# EAGLE library part TXB0104 (library U-Translator)
TXB0104x [TI,TXB0104DRG4] TRANSLATOR VOLT-LVL AUTO-DIR 14SOIC Do not blindly use this part, make sure you read the data sheet. For examle it must have fairly high Z, 50k Ohm or more on logic line
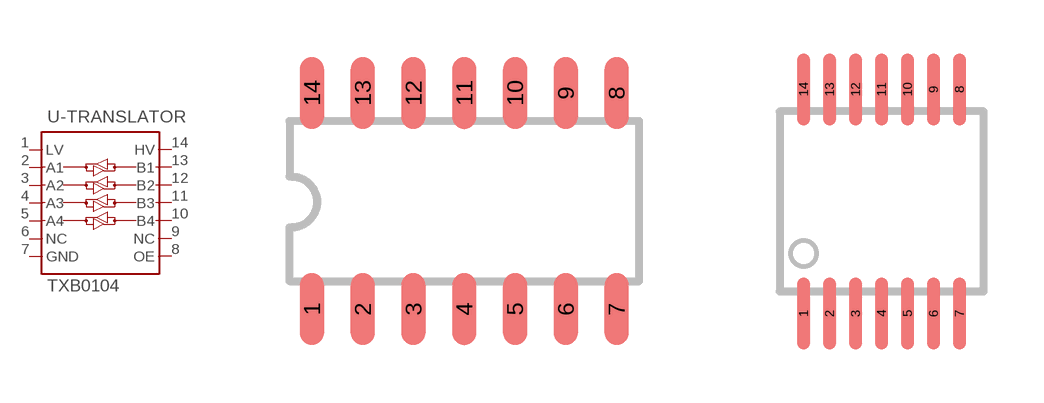
[diagram p0: symbol with the pads of 14SOIC; footprints 14SOIC, 14TSSOP]

Designator prefix U-TRANSLATOR

## TXB0104D  [14SOIC]
1  LV  out
2  A1  out
3  A2  in
4  A3  in
5  A4  in
6  NC  in
7  GND  in
8  OE
9  NC
10  B4
11  B3
12  B2
13  B1  in
14  HV  in

## TXB0104PW  [14TSSOP]
Pads as for 14SOIC

## Footprint 14SOIC (pad centres in mm)
14POS PLASTIC SMALL OUTLINE (14SOIC) Center to Center 2.7mm pad .6mm X1.8mm referance TI's TXS0104 SOIC package, but pads are little larger and rounded (rsutehrland at epccs)
smd 0.6 x 1.8: 1 -3.81,-2.7; 2 -2.54,-2.7; 3 -1.27,-2.7; 4 0,-2.7; 5 1.27,-2.7; 6 2.54,-2.7; 7 3.81,-2.7; 8 3.81,2.7; 9 2.54,2.7; 10 1.27,2.7; 11 0,2.7; 12 -1.27,2.7; 13 -2.54,2.7; 14 -3.81,2.7

## Footprint 14TSSOP (pad centres in mm)
14POS THIN SHRINK SMALL OUTLINE PACKAGE (14-TSSOP)
smd 0.33 x 1.8: 1 -1.95,-2.8; 2 -1.3,-2.8; 3 -0.65,-2.8; 4 0,-2.8; 5 0.65,-2.8; 6 1.3,-2.8; 7 1.95,-2.8; 8 1.95,2.8; 9 1.3,2.8; 10 0.65,2.8; 11 0,2.8; 12 -0.65,2.8; 13 -1.3,2.8; 14 -1.95,2.8